# EAGLE library part OPA4140AI (library isystems)
High-Precision, Low-Noise, Rail-to-Rail Output, 11MHz JFET Op Amp FEATURES Very Low Offset Drift: 1μV/°C max Very Low Offset: 120μV max Low Input Bias Current: 10pA max Very Low 1/f Noise: 250nVpp, 0.1Hz to 10Hz Low Noise: 5.1nV/sqrt(Hz) Slew Rate: 20V/μs Low Supply Current: 2.0mA max Input Voltage Range Includes V– Supply Single-Supply Operation: 4.5V to 36V Dual-Supply Operation: ±2.25V to ±18V No Phase Reversal Industry-Standard SO Packages APPLICATIONS Battery-Powered Instuments Industrial Controls Medical Instrumentation Photodiode Amplifiers Active Filters Data Acquisition Systems Automatic Test Systems
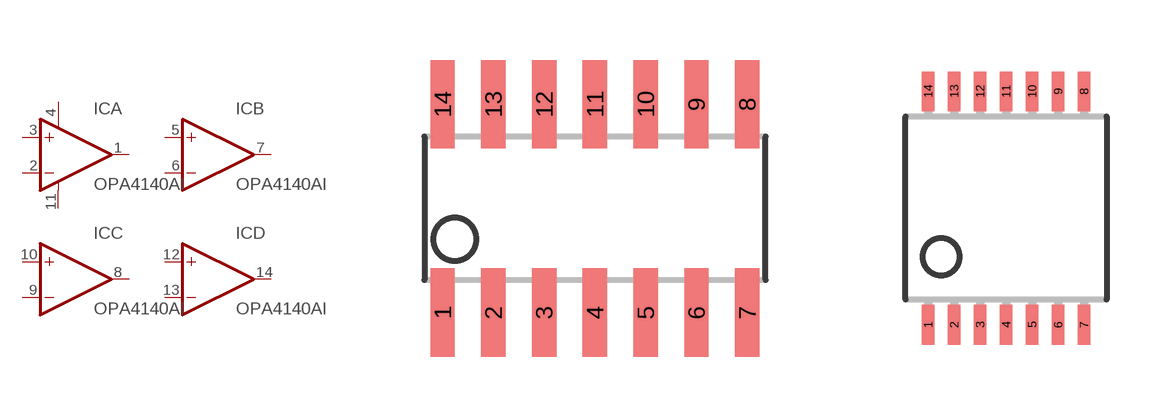
[diagram p47: symbol with the pads of SO14; footprints SO14, TSSOP14]

Designator prefix IC; gates A=OP-AMP+- B=OP-AMP C=OP-AMP D=OP-AMP

## OPA4140AIU (MF: TEXAS INSTRUMENTS; MPN: OPA4140AID; OC_FARNELL: 1863107; OC_NEWARK: 39T4889)  [SO14]
1  A:OUT  out
2  A:-IN  in
3  A:+IN  in
4  A:V+  pwr
5  B:+IN  in
6  B:-IN  in
7  B:OUT  out
8  C:OUT  out
9  C:-IN  in
10  C:+IN  in
11  A:V-  pwr
12  D:+IN  in
13  D:-IN  in
14  D:OUT  out

## OPA4140AIPW  [TSSOP14]
Pads as for SO14

## Footprint SO14 (pad centres in mm)
Small Outline Package
smd 0.61 x 2.21: 1 -3.81,-2.603; 2 -2.54,-2.603; 3 -1.27,-2.603; 4 0,-2.603; 5 1.27,-2.603; 6 2.54,-2.603; 7 3.81,-2.603; 8 3.81,2.603; 9 2.54,2.603; 10 1.27,2.603; 11 0,2.603; 12 -1.27,2.603; 13 -2.54,2.603; 14 -3.81,2.603

## Footprint TSSOP14 (pad centres in mm)
Thin Shrink Small Outline Plastic 14
smd 0.305 x 0.991: 1 -1.95,-2.918; 2 -1.3,-2.918; 3 -0.65,-2.918; 4 0,-2.918; 5 0.65,-2.918; 6 1.3,-2.918; 7 1.95,-2.918; 8 1.95,2.918; 9 1.3,2.918; 10 0.65,2.918; 11 0,2.918; 12 -0.65,2.918; 13 -1.3,2.918; 14 -1.95,2.918